# Altium footprint library BrewBit.PcbLib: 85 footprints (part 6 of 6)
Each footprint in its own frame and in the unit in brackets; x right, y up, seen from the top. Pads: shape width x height; smd on the part's side, far side on the other; paste and mask are expansions set on the pad; w line width, h text height; cw(c..) or ccw(c..) is an arc to the next point about the centre after c.
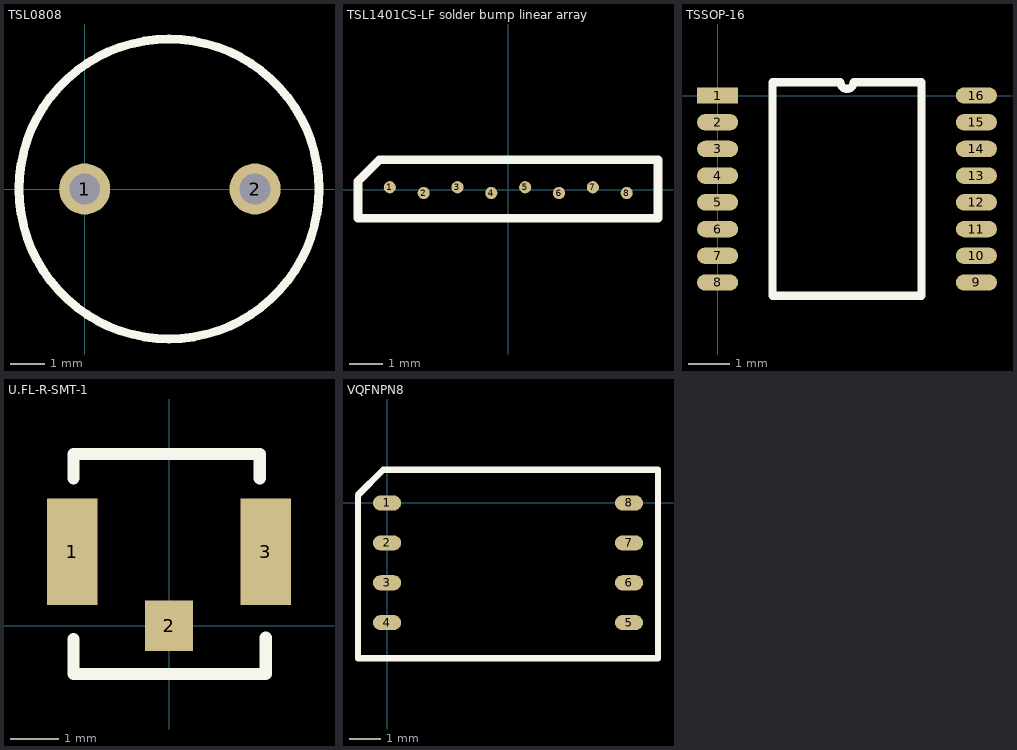
[diagram p5: the footprints below, top view; thin cyan lines are the x and y axes]

## TSL0808 [mm]
pads (2):
  round 1.5 hole 0.9: 1(0,0) 2(5,0)
Top Overlay:
  circle w0.254: c2.475,0 r4.4

## TSL1401CS-LF solder bump linear array [mm]
pads (8):
  round 0.36 smd mask+0.02: 1(-3.505,0.076) 2(-2.505,-0.094) 3(-1.505,0.076) 4(-0.505,-0.094) 5(0.495,0.076) 6(1.495,-0.094) 7(2.495,0.076) 8(3.495,-0.094)
Top Overlay:
  lines w0.254: -4.445,-0.838 -4.445,0.254 -3.81,0.889 4.42,0.889 4.42,-0.838 -4.445,-0.838

## TSSOP-16 [mm]
pads (16):
  rect 1x0.4 smd: 1(0,0)
  oval 1x0.4 smd: 2(0,-0.65) 3(0,-1.3) 4(0,-1.95) 5(0,-2.6) 6(0,-3.25) 7(0,-3.9) 8(0,-4.55) 9(6.3,-4.55) 10(6.3,-3.9) 11(6.3,-3.25) 12(6.3,-2.6) 13(6.3,-1.95) 14(6.3,-1.3) 15(6.3,-0.65) 16(6.3,0)
Top Overlay:
  lines w0.2: 1.335,-4.875 1.335,0.325 2.987,0.325 ccw(c3.15,0.325) 3.312,0.325 4.965,0.325 4.965,-4.875 1.335,-4.875

## U.FL-R-SMT-1 [mm] "U.FL Connector"
pads (3):
  rect 1.05x2.2 smd: 1(-2,1.525) 3(2,1.525)
  rect 1x1.05 smd: 2(0,0)
Top Overlay:
  lines w0.254: -1.975,-0.275 -1.975,-1 2,-1 2,-0.25 ; -1.975,3.05 -1.975,3.55 1.875,3.55 1.875,3.05

## VQFNPN8 [mm]
pads (8):
  oval 0.9x0.48 smd: 1(0,0) 2(0,-1.27) 3(0,-2.54) 4(0,-3.81) 5(7.7,-3.81) 6(7.7,-2.54) 7(7.7,-1.27) 8(7.7,0)
Top Overlay:
  lines w0.2: -0.927,-4.941 8.622,-4.941 8.622,1.056 -0.124,1.056 -0.927,0.253 -0.927,-4.941